# Altium schematic symbol library OSA.SchLib: 7 symbols
Pins are listed as number, name and electrical type; pins without a type are passive.

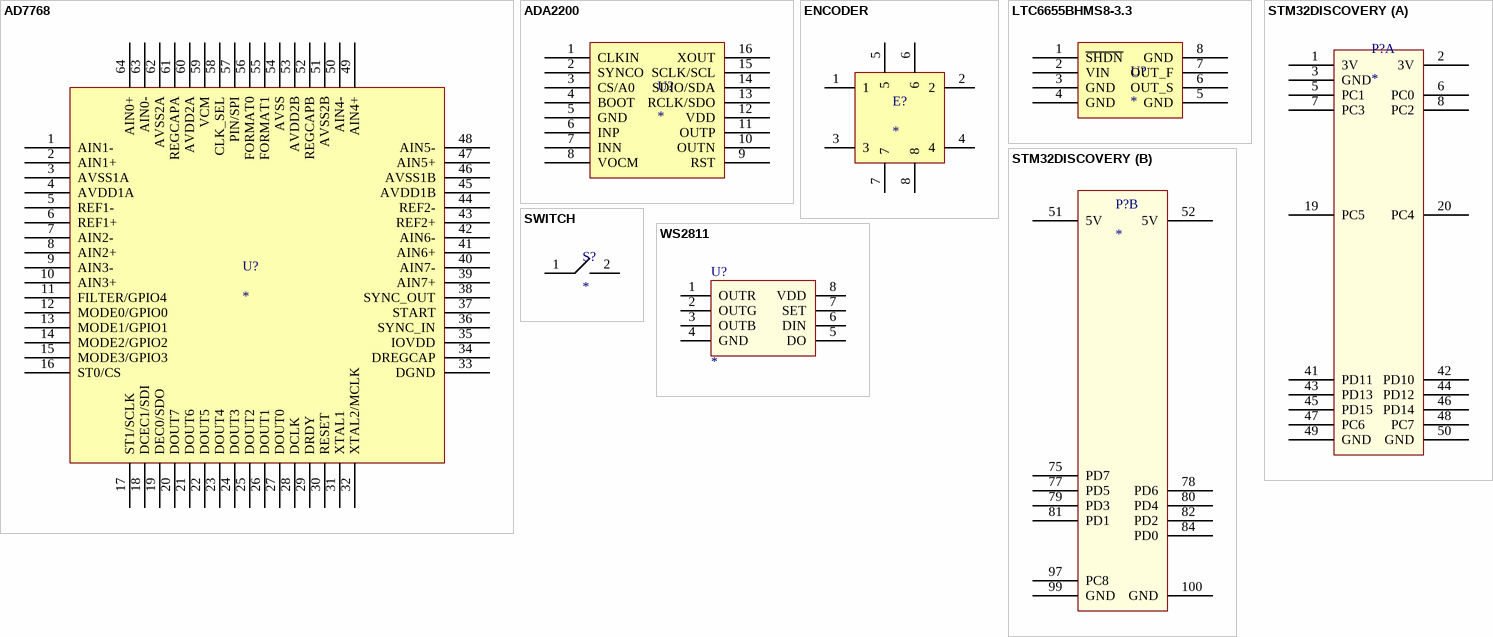
[diagram p0: symbols AD7768 to WS2811]

## AD7768
designator U?
footprint LQFP-64 (Footprint not found)
pins: 1 AIN1-, 2 AIN1+, 3 AVSS1A, 4 AVDD1A, 5 REF1-, 6 REF1+, 7 AIN2-, 8 AIN2+, 9 AIN3-, 10 AIN3+, 11 FILTER/GPIO4, 12 MODE0/GPIO0, 13 MODE1/GPIO1, 14 MODE2/GPIO2, 15 MODE3/GPIO3, 16 ST0/CS, 17 ST1/SCLK, 18 DCEC1/SDI, 19 DEC0/SDO, 20 DOUT7, 21 DOUT6, 22 DOUT5, 23 DOUT4, 24 DOUT3, 25 DOUT2, 26 DOUT1, 27 DOUT0, 28 DCLK, 29 DRDY, 30 RESET, 31 XTAL1, 32 XTAL2/MCLK, 33 DGND, 34 DREGCAP, 35 IOVDD, 36 SYNC_IN, 37 START, 38 SYNC_OUT, 39 AIN7+, 40 AIN7-, 41 AIN6+, 42 AIN6-, 43 REF2+, 44 REF2-, 45 AVDD1B, 46 AVSS1B, 47 AIN5+, 48 AIN5-, 49 AIN4+, 50 AIN4-, 51 AVSS2B, 52 REGCAPB, 53 AVDD2B, 54 AVSS, 55 FORMAT1, 56 FORMAT0, 57 PIN/SPI, 58 CLK_SEL, 59 VCM, 60 AVDD2A, 61 REGCAPA, 62 AVSS2A, 63 AIN0-, 64 AIN0+

## ADA2200
designator U?
footprint TSSOP-16 (Footprint not found)
pins: 1 CLKIN, 2 SYNCO, 3 CS/A0, 4 BOOT, 5 GND, 6 INP, 7 INN, 8 VOCM, 9 RST, 10 OUTN, 11 OUTP, 12 VDD, 13 RCLK/SDO, 14 SDIO/SDA, 15 SCLK/SCL, 16 XOUT

## ENCODER
designator E?
footprint ENCODER
pins: 1, 2, 3, 4, 5, 6, 7, 8

## LTC6655BHMS8-3.3
designator U?
footprint MS-8 (Footprint not found)
pins: 1 ~{SHDN}, 2 VIN, 3 GND, 4 GND, 5 GND, 6 OUT_S, 7 OUT_F, 8 GND

## STM32DISCOVERY
designator P?
footprint DISCO (Footprint not found)
part A pins: 1 3V, 2 3V, 3 GND, 5 PC1, 6 PC0, 7 PC3, 8 PC2, 19 PC5, 20 PC4, 41 PD11, 42 PD10, 43 PD13, 44 PD12, 45 PD15, 46 PD14, 47 PC6, 48 PC7, 49 GND, 50 GND
part B pins: 51 5V, 52 5V, 75 PD7, 77 PD5, 78 PD6, 79 PD3, 80 PD4, 81 PD1, 82 PD2, 84 PD0, 97 PC8, 99 GND, 100 GND

## SWITCH
designator S?
footprint SWITCH
pins: 1, 2

## WS2811
designator U?
Supplier 1: Arrow Electronics; Supplier Part Number 1: 1378
footprint SOP-8 (Footprint not found)
pins: 1 OUTR, 2 OUTG, 3 OUTB, 4 GND, 5 DO, 6 DIN, 7 SET, 8 VDD